# EAGLE library part INA190* (library texas)
INA190 Bidirectional, Low-Power, Zero-Drift, Wide Dynamic Range, Precision Current-Sense Amplifier With Enable
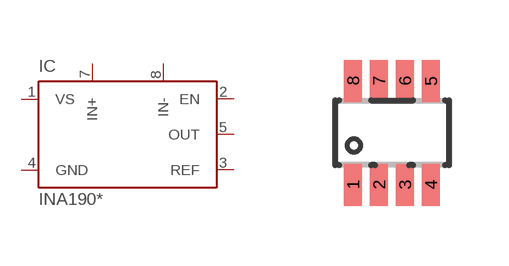
[diagram p32: symbol with the pads of SOT23-8; footprint SOT23-8]

Designator prefix IC

## INA190A1DDF, INA190A2DDF, INA190A3DDF, INA190A4DDF, INA190A5DDF  [SOT23-8]
1  VS  pwr
2  EN  in
3  REF  pas
4  GND  pwr
5  OUT  pas
7  IN+  pas
8  IN-  pas

## Footprint SOT23-8 (pad centres in mm)
SOT23-5 package
smd 0.45 x 1.05: 1 -0.975,-1.3; 2 -0.325,-1.3; 3 0.325,-1.3; 4 0.975,-1.3; 5 0.975,1.3; 6 0.325,1.3; 7 -0.325,1.3; 8 -0.975,1.3